# EAGLE library part NRF24AP1 (library Nordic)
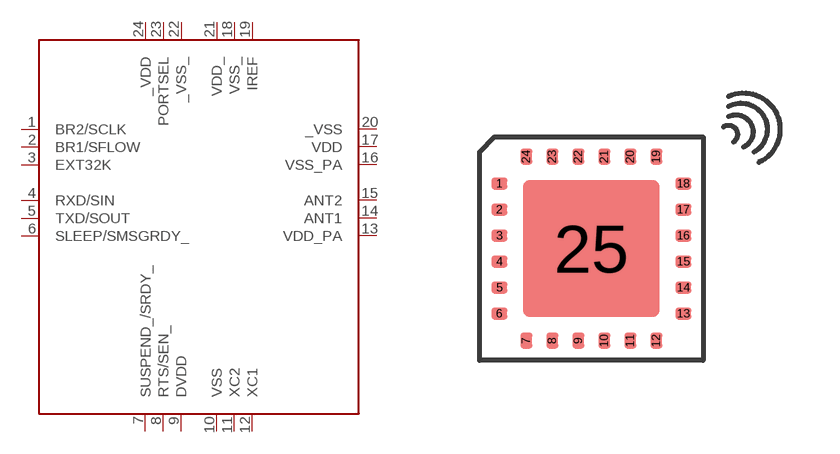
[diagram p0: symbol with the pads of QFN24; footprint QFN24]

Designator prefix -

## NRF24AP1  [QFN24]
1  BR2/SCLK
2  BR1/SFLOW
3  EXT32K
4  RXD/SIN
5  TXD/SOUT
6  SLEEP/SMSGRDY_
7  SUSPEND_/SRDY_
8  RTS/SEN_
9  DVDD
10  VSS
11  XC2
12  XC1
13  VDD_PA
14  ANT1
15  ANT2
16  VSS_PA
17  VDD
18  VSS_
19  IREF
20  _VSS
21  VDD_
22  _VSS_
23  PORTSEL
24  _VDD

## Footprint QFN24 (pad centres in mm)
smd 0.4 x 0.3: 1 -2.3,1.625; 2 -2.3,0.975; 3 -2.3,0.325; 4 -2.3,-0.325; 5 -2.3,-0.975; 6 -2.3,-1.625; 13 2.3,-1.625; 14 2.3,-0.975; 15 2.3,-0.325; 16 2.3,0.325; 17 2.3,0.975; 18 2.3,1.625
smd 0.3 x 0.4: 7 -1.625,-2.3; 8 -0.975,-2.3; 9 -0.325,-2.3; 10 0.325,-2.3; 11 0.975,-2.3; 12 1.625,-2.3; 19 1.625,2.3; 20 0.975,2.3; 21 0.325,2.3; 22 -0.325,2.3; 23 -0.975,2.3; 24 -1.625,2.3
smd 3.429 x 3.429: 25 0,0